# Altium footprint library CON8_2mm.PcbLib: 1 footprints
Each footprint in its own frame and in the unit in brackets; x right, y up, seen from the top. Pads: shape width x height; smd on the part's side, far side on the other; paste and mask are expansions set on the pad; w line width, h text height; cw(c..) or ccw(c..) is an arc to the next point about the centre after c.
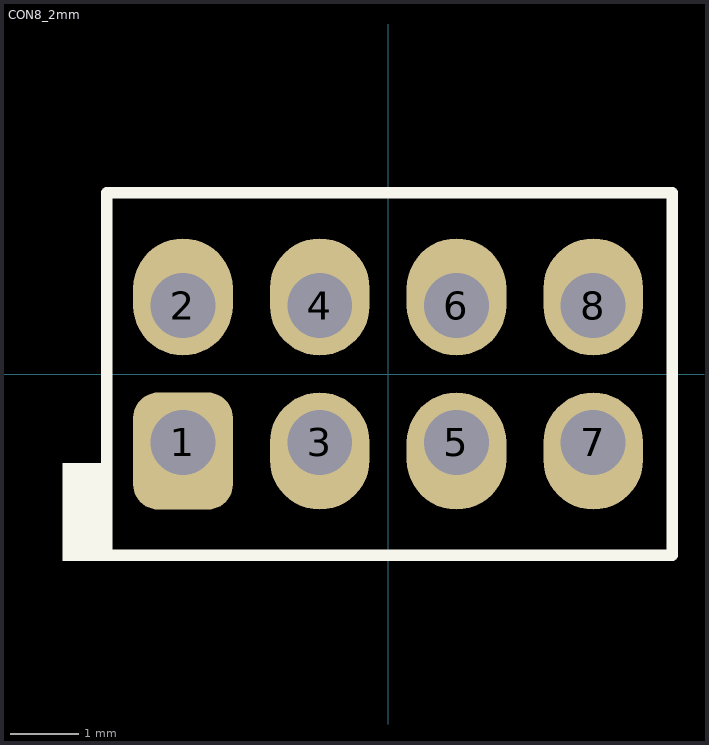
[diagram p0: the footprint, top view; thin cyan lines are the x and y axes]

## CON8_2mm [mm] "8 pin header (2 rows x 4) 2mm pitch"
pads (8):
  rrect50% 1.458x1.712 hole 0.95 copper offset 0,-0.127 mask+0.08: 1(-3,-1)
  oval 1.458x1.712 hole 0.95 copper offset 0,0.127 mask+0.08: 2(-3,1) 6(1,1) 8(3,1)
  oval 1.458x1.712 hole 0.95 copper offset 0,-0.127 mask+0.08: 3(-1,-1) 5(1,-1) 7(3,-1)
  oval 1.458x1.712 hole 0.95 copper offset 0,0.127: 4(-1,1)
Top Overlay:
  region: -4.11,-2.735 -4.11,-1.3 -4.76,-1.3 -4.76,-2.735
  lines w0.17: -4.115,-2.65 -4.115,2.65 4.155,2.65 4.155,-2.65 -4.115,-2.65
3D body "877580816.stp": height 5.5, standoff -2.6, extent -3.95,-2 3.95,2
3D body: height 2.54, standoff -2.54, extent -2.47,-19.625 -2.47,-19.625